# Altium schematic symbol library LSM模块.SCHLIB: 6 symbols
Pins are listed as number, name and electrical type; pins without a type are passive.

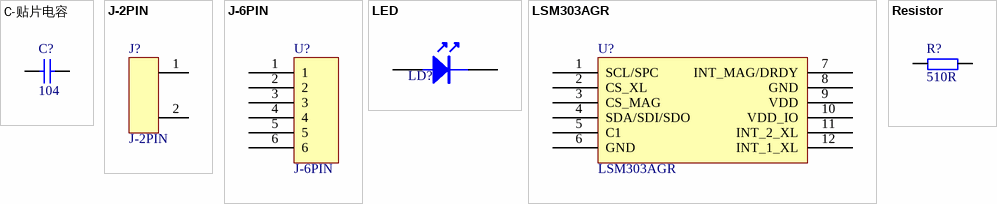
[diagram p0: symbols C-贴片电容 to Resistor]

## C-贴片电容
designator C?, comment 104
Capacitor; Published: 8-Jun-2000; LatestRevisionDate: 17-Jul-2002; LatestRevisionNote: Re-released for DXP Platform.; PackageReference: RAD-0.3; Publisher: Altium Limited; Value: 104
footprint 0603c
footprint VP32-3.2 (Capacitor, Ceramic, Thru-Hole, Dipped Radial; Body 5.1 x 3.2 mm (WxT) Pin Spacing 2.54 mm (typ))
footprint VP45-3.2 (Capacitor, Ceramic, Thru-Hole, Dipped Radial; Body 7.8 x 3.2 mm (WxT) Pin Spacing 5.08 mm (typ))
simulation model CAP (Capacitor)
signal-integrity model Cap
footprint 0603C
footprint C-0603c
footprint C-0805c
pins: 1, 2

## J-2PIN
designator J?
SOCKET
footprint HDR1X2 (Connector; Header; 2 Position)
pins: 1, 2

## J-6PIN
designator U?
footprint LSM底座
pins: 1, 2, 3, 4, 5, 6

## LED
designator LD?
footprint D-0603D
pins: 1, 2

## LSM303AGR
designator U?
e-compass
footprint LSM电子罗盘
pins: 1 SCL/SPC, 2 CS_XL, 3 CS_MAG, 4 SDA/SDI/SDO, 5 C1, 6 GND, 7 INT_MAG/DRDY, 8 GND, 9 VDD, 10 VDD_IO, 11 INT_2_XL, 12 INT_1_XL

## Resistor
designator R?, comment 510R
RES, 10K, 5%, 0.1 W, 0603
footprint R-0603R
pins: 1, 2